# Altium schematic symbol library Inverter Processor.SCHLIB: 53 symbols
Pins are listed as number, name and electrical type; pins without a type are passive.

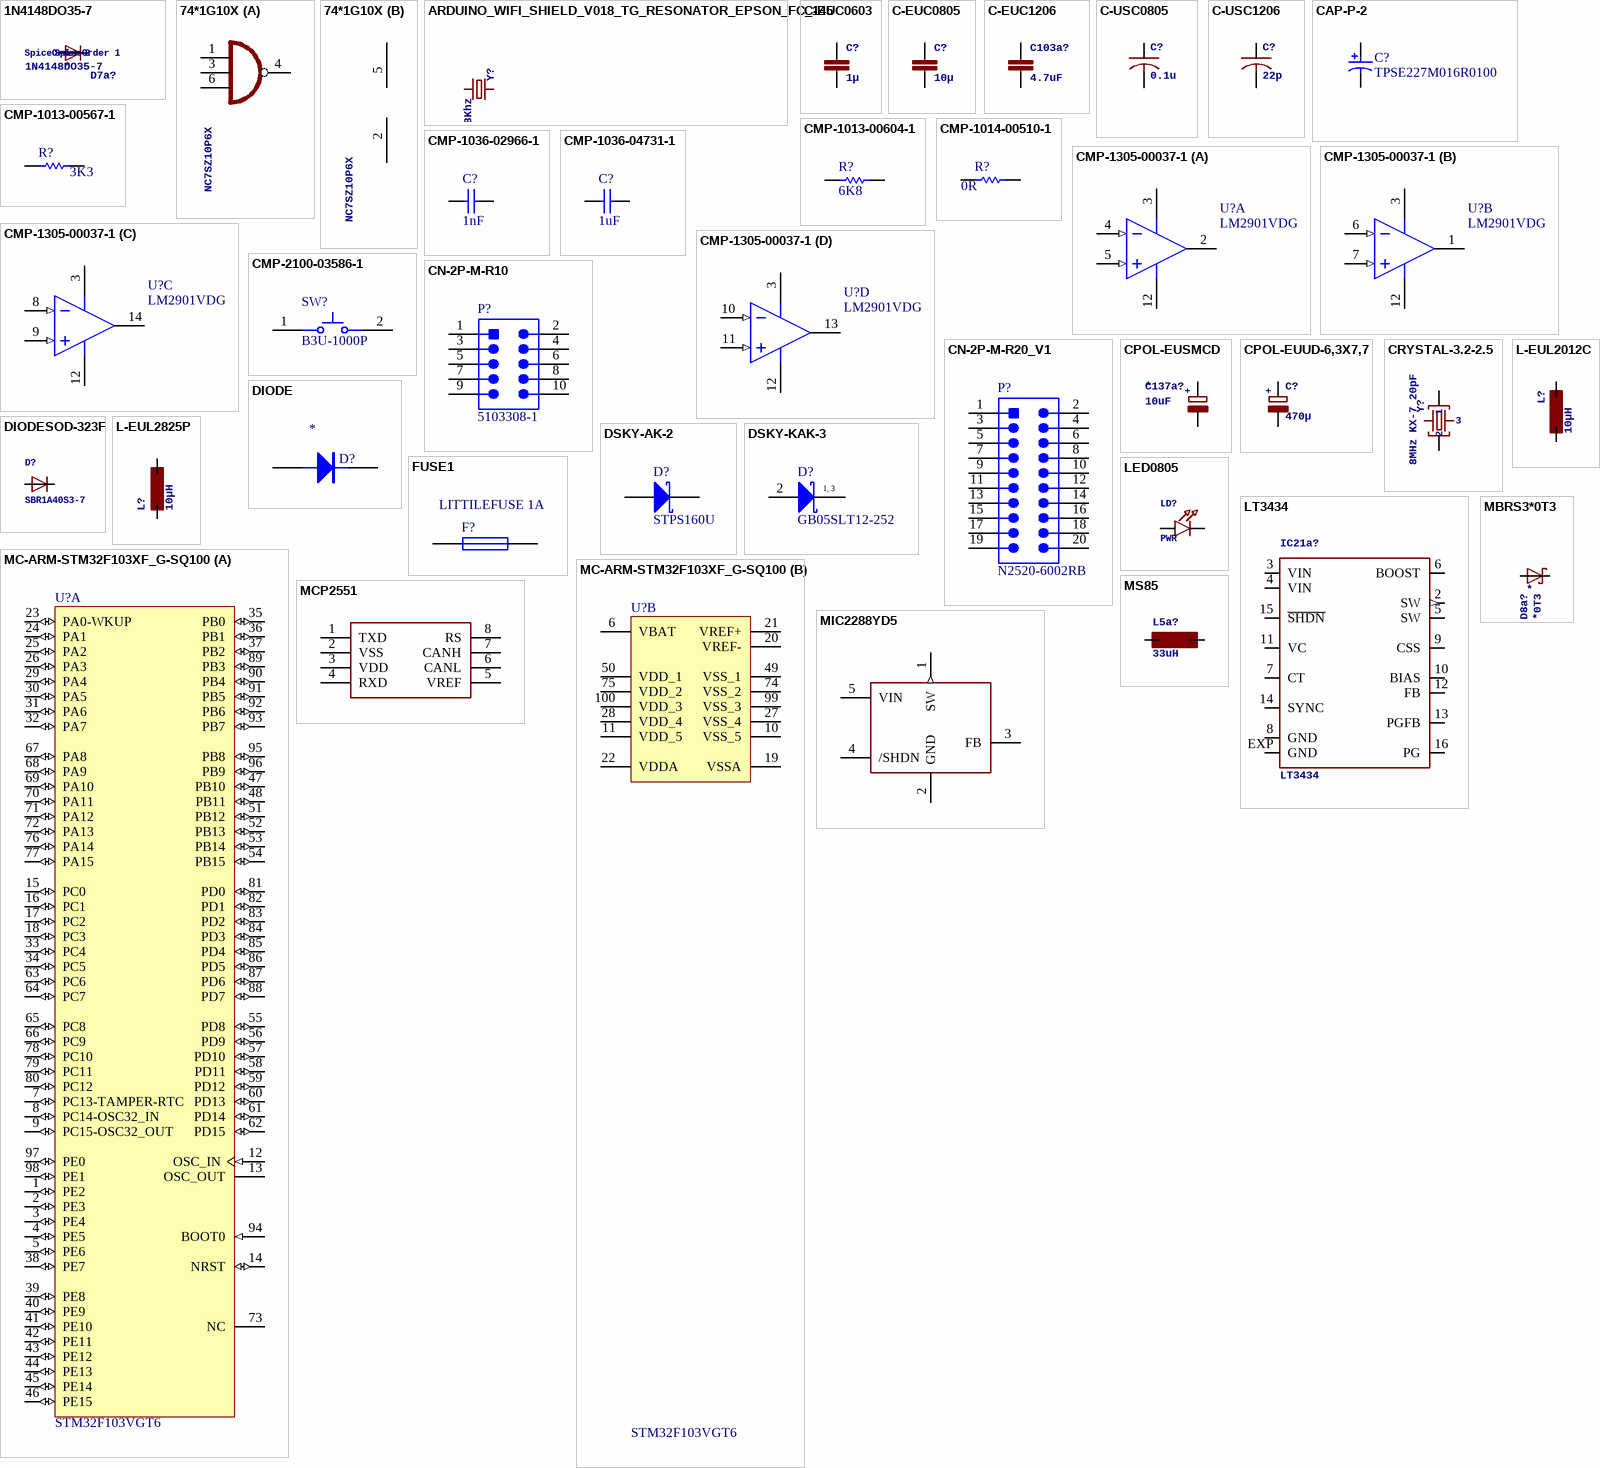
[diagram p0: symbols 1N4148DO35-7 to MS85]

## 1N4148DO35-7
designator D7a?  SpiceOrder1: SpiceOrder 1  SpiceOrder2: SpiceOrder 2
DIODE   high speed (Philips); NAME: *
footprint DO35-7
pins: A, C

## 74*1G10X
designator IC?, comment NC7SZ10P6X
3-input NAND gate
footprint SC70-6
part A pins: 1 I0, 3 I1, 4 O (oc), 6 I2
part B pins: 2 GND (power), 5 VCC (power)

## ARDUINO_WIFI_SHIELD_V018_TG_RESONATOR_EPSON_FC_145
designator Y?, comment 32.768Khz
footprint ARDUINO_WIFI_SHIELD_V018_TG_RESONATOR_EPSON_FC_145
pins: P$1 1, P$2 2

## C-EUC0603
designator C?, comment 1µ
CAPACITOR, European symbol
footprint C0603
pins: 1, 2

## C-EUC0805
designator C?, comment 10µ
CAPACITOR, European symbol
footprint C0805
pins: 1, 2

## C-EUC1206
designator C103a?, comment 4.7uF
CAPACITOR, European symbol
footprint C1206
pins: 1, 2

## C-USC0805
designator C?, comment 0.1u
CAPACITOR, American symbol
footprint C0805
pins: 1, 2

## C-USC1206
designator C?, comment 22p
CAPACITOR, American symbol
footprint C1206
pins: 1, 2

## CAP-P-2
designator C?, comment TPSE227M016R0100
Low ESR, 220 uF, 16 V, +/- 20%, -55 to 125 degC, 2-Pin SMD, RoHS, Tape and Reel; Manufacturer: AVX; Lead Spacing (nom): NotRequiredmm; Seal: NotRequired; Product Depth (mm): 4.3mm; DELETED: Compliant; Rad Hardened: No; Voltage: 16VDC; Product Height (mm): 4.1mm; Capacitance: 220000000pF; Product Length (mm): 7.3mm; DCL: 35.2uA; ESR: 0.1ohm; DF: 10%; Case Style: Molded; Polarity: Polar; Package / Case: 7343-43; Failure Rate: NotRequired; Case Code: E; Length W/Weld (max): NotRequiredmm; Operating Temp Range: -55Cto125C; Length W/Weld: NotRequiredmm; Insulation: NotRequired; Packaging: TapeandReel; Construction: SMTChip; Tolerance (+ or -): 20%; Manufacturer URL: http://www.avx.com/; Wire Form: NotRequired; Mounting Style: SurfaceMount; Datasheet Version: 01/2017; Package URL: http://www.avx.com/download/software/literature/AVX-Footprint-Library.pdf; Mounting Technology: SurfaceMount; Datasheet URL: http://datasheets.avx.com/TPS.pdf; Package Description: 2-Pin Surface Mount Device, Body 7.3 x 4.35 mm; Product Diameter (mm): NotRequiredmm; Package Reference: CAPMP7344X43-T; Seated Plane Height: NotRequiredmm
footprint CAPMP7344X43-T_V (Molded Capacitor, 2-Leads, Body 7.50x4.5mm)
pins: 1, 2

## CMP-1013-00567-1
designator R?, comment value 3K3  (hidden comment: 3K3 1% 0805(2012))
3K3 0.125W 1% 0805 (2012 Metric)  SMD; Case-Metric: 2012; Case-EIA: 0805; Technology: SMT; Tolerance: 1 %; Power: 0.125 W
footprint RESC0805(2012)_L (Chip Resistor, Body 2.0x1.3mm, IPC High Density)
footprint RESC0805(2012)_M (Chip Resistor, Body 2.0x1.3mm, IPC Low Density)
footprint RESC0805(2012)_N (Chip Resistor, Body 2.0x1.3mm, IPC Medium Density)
pins: 1, 2
1 alternate drawing of the same symbol

## CMP-1013-00604-1
designator R?, comment value 6K8  (hidden comment: 6K8 1% 0805(2012))
6K8 0.125W 1% 0805 (2012 Metric)  SMD; Value: 6800.00 Ohm; Case-EIA: 0805; Case-Metric: 2012; Tolerance: 1 %; Technology: SMT; Power: 0.125 W
footprint RESC0805(2012)_N (Chip Resistor, Body 2.0x1.3mm, IPC Medium Density)
footprint RESC0805(2012)_M (Chip Resistor, Body 2.0x1.3mm, IPC Low Density)
footprint RESC0805(2012)_L (Chip Resistor, Body 2.0x1.3mm, IPC High Density)
pins: 1, 2
1 alternate drawing of the same symbol

## CMP-1014-00510-1
designator R?, comment 0R
1K 0.25W 1% 1206 (3216 Metric)  SMD; Case-Metric: 3216; Case-EIA: 1206; Value: 1000.00 Ohm; Power: 0.25 W; Tolerance: 1 %; Technology: SMT
footprint RESC1206(3216)_N (Chip Resistor, Body 3.2x1.6mm, IPC Medium Density)
footprint RESC1206(3216)_M (Chip Resistor, Body 3.2x1.6mm, IPC Low Density)
footprint RESC1206(3216)_L (Chip Resistor, Body 3.2x1.6mm, IPC High Density)
pins: 1, 2
1 alternate drawing of the same symbol

## CMP-1036-02966-1
designator C?, comment value 1nF  (hidden comment: CAP 1nF 25V 0805(2012))
CAP 1nF 25V ±5% 0805 (2012 Metric) Thickness 1mm SMD; Case-Metric: 2012; Tolerance: Â±5%; Case-EIA: 0805; Max Thickness: 1 mm; Rated Voltage: 25 V; Technology: SMT
footprint CAPC0805(2012)100_N (Chip Capacitor, Body 2.0x1.2mm, Height 1.0mm, IPC Medium Density)
footprint CAPC0805(2012)100_L (Chip Capacitor, Body 2.0x1.2mm, Height 1.0mm, IPC High Density)
footprint CAPC0805(2012)100_M (Chip Capacitor, Body 2.0x1.2mm, Height 1.0mm, IPC Low Density)
pins: 1, 2
1 alternate drawing of the same symbol

## CMP-1036-04731-1
designator C?, comment value 1uF  (hidden comment: CAP 1uF 6.3V 0805(2012))
CAP 1uF 6.3V ±10% 0805 (2012 Metric) Thickness 1.45mm SMD; Case-Metric: 2012; Case-EIA: 0805; Tolerance: Â±10%; Max Thickness: 1.45 mm; Technology: SMT; Rated Voltage: 6.3 V
footprint CAPC0805(2012)145_N (Chip Capacitor, Body 2.0x1.2mm, Height 1.45mm, IPC Medium Density)
footprint CAPC0805(2012)145_M (Chip Capacitor, Body 2.0x1.2mm, Height 1.45mm, IPC Low Density)
footprint CAPC0805(2012)145_L (Chip Capacitor, Body 2.0x1.2mm, Height 1.45mm, IPC High Density)
pins: 1, 2
1 alternate drawing of the same symbol

## CMP-1305-00037-1
designator U?, comment LM2901VDG
Single Supply Quad Comparators, -40 to 125 degC, 14-Pin SOIC, Pb-Free, Tube; Manufacturer: On Semiconductor; IO Typ (mA): 16; ComponentLink1URL: http://www.onsemi.com/; PartNumber: LM2901VDG; DatasheetVersion: Rev. 20; Packing: Tube; ComponentLink1Description: Manufacturer URL; Mounting Technology: Surface Mount; PackageDescription: 14-Pin Small Outline Integrated Circuit, Body 8.65 x 3.9 mm, Pitch 1.27 mm; ComponentLink2URL: http://www.onsemi.com/pub_link/Collateral/LM339-D.PDF; ComponentLink3URL: http://www.onsemi.com/pub_link/Collateral/751A-03.PDF; RoHS: TRUE; PackageVersion: Rev. K, 05/2011; ComponentLink3Description: Package Specification; PackageReference: SOIC-14-751A-03; ComponentLink2Description: Datasheet; PartId: 1
footprint ONSC-SOIC-14-751A-03_V (SOIC, 14-Leads, Body 8.75x4mm, Pitch 1.27mm)
pins on every part: 3 VCC (power), 12 GND (power)
part A pins: 2 OUT1 (oc), 4 IN1- (in), 5 IN1+ (in)
part B pins: 1 OUT2 (oc), 6 IN2- (in), 7 IN2+ (in)
part C pins: 8 IN3- (in), 9 IN3+ (in), 14 OUT3 (oc)
part D pins: 10 IN4- (in), 11 IN4+ (in), 13 OUT4 (oc)

## CMP-2100-03586-1
designator SW?, comment B3U-1000P
Ultra-Small Tactile Switch, 0.05 A, 12 V, -25 to 70 degC, 2-Pin SMD, RoHS, Tape and Reel; Manufacturer: Omron Electronic Components; Operating Force: 1.5N; Current Rating: 50mA; Voltage Rating (DC): 12V; Electrical Life: 200000Cycles; Actuator Length: 0.4mm; Insulation Resistance: 100MOhm; Switch Travel: 0.15mm; Throw Configuration: SPST; Illumination Type: Illuminated; Width: 3mm; Weight: 0.022g; Datasheet Version: 42005.0; Datasheet URL: http://www.omron.com/ecb/products/pdf/en-b3u.pdf; Height: 1.2mm; Package Quantity: 1; REACH SVHC: Unknown; Contact Current Rating: 50mA; Contact Material: Silver; Max Current Rating: 50mA; Package Reference: B3U-1000; Termination: SMD/SMT; Packaging: TapeandReel; Manufacturer URL: http://www.omron.com/; RoHSCompliant: true; Mount: SurfaceMount; Length: 4mm; Min Operating Temperature: -25degC; Depth: 2.5mm; Lead Free: LeadFree; Case/Package: SMD/SMT; Package Description: 2-Pin Surface Mount Device, Body 3 x 2.5 mm; Max Operating Temperature: 70degC; Orientation: Straight
footprint OMRON-B3U-1000_V (SMD, 2-Leads, Body 3x2.5mm)
pins: 1, 2

## CN-2P-M-R10
designator P?, comment 5103308-1
Male Header, Pitch 2.54 mm, 2 x 5 Position, Height 9.85 mm, Tail Length 3.05 mm, RoHS, Tube; Manufacturer: TE Connectivity; Mating Products: 1658624-1-ND / -CONNRCPT10POSPOLARGOLD / 1658527-4-ND / -CONNRCPT10POS.100W/STRRELF / 1658527-3-ND / -CONNRCPT10POS.100622SERIES / 1658526-3-ND / -CONNRCPT10POSVERTGOLD / 1658526-5-ND / -609-1041LFFEMSOCKT,LEADFREE / 1658526-4-ND / -609-1030LFFEMSOCKT,LEADFREE / ASC10B-ND / -CONNIDCSOCKET10POSGOLD / ASC10H-ND / -CONNIDCSOCKET10POS15GOLD / AKC10B-ND / -CONNIDCSKT10POSW/POLGOLD / AKC10H-ND / -CONNIDCSKT10POSW/POL15GOLD / More...; Dynamic Catalog: AMP-LatchSeries; Number of Positions Loaded: All; Featured Product: AMP-LATCHRibbonCableConnectors; 3D Model: 5103308-1.pdf; Number of Positions: 10; Other Names: A33159; Catalog Drawings: LowProfileShroudedStraight; Connector Type: Header,Shrouded; Termination: Solder; Contact Finish Thickness: 15µin(0.38µm); Datasheet URL: http://www.onlinecomponents.com/productFiles/mf-AMP/eng_cat_889409_0699_96_.pdf; Standard Package: 125; Number of Rows: 2; Contact Type: MalePin; Mounting Type: ThroughHole; Manufacturer URL: http://www.te.com/; Contact Finish: GoldorGold-Palladium; Family: RectangularConnectors-Headers,MalePins; RoHS Information: 5103308-1StatementofCompliance; Packaging: Tube; Category: Connectors,Interconnects; Datasheet Version: Apr-12; Series: AMP-Latch; Color: Black
footprint TECO-5103308-1_V (Connector, 10-Leads, Body 20.32x9.14mm, Pitch 2.54mm)
pins: 1, 2, 3, 4, 5, 6, 7, 8, 9, 10

## CN-2P-M-R20_V1
designator P?, comment N2520-6002RB
Male Header, Pitch 2.54 mm, 2 x 10 Position, Height 9.91 mm, Tail Length 2.84 mm, -55 to 105 degC, RoHS; Manufacturer: 3MInterconnectSolutions; Number of Contacts: 20; Pitch: 2.54mm; Gender: HDR; Termination Method: Solder; Datasheet URL: https://datasheet.ciiva.com/11750/0900766b807b18da-11750722.pdf; Category: ConnectorHeadersandPCBReceptacles; Mounting Technology: ThroughHole; Contact Plating: GoldOverNickel; Package Reference: N2520-6002RB; Datasheet Version: 05/2007; Number of Rows: 2; Manufacturer URL: http://www.3m.com/; Package Description: Male Header, Pitch 2.54 mm, 2 x 10 Position, Height 9.91 mm, Tail Length 2.84 mm; Type: ShroudedHeader
footprint 3M-N2520-6002RB_V (CONN, 20-Leads, Body 32.72x8.59mm, Picth 2.54mm)
pins: 1, 2, 3, 4, 5, 6, 7, 8, 9, 10, 11, 12, 13, 14, 15, 16, 17, 18, 19, 20

## CPOL-EUSMCD
designator C137a?, comment 10uF
POLARIZED CAPACITOR, European symbol; NAME: *; +: +
footprint SMC_D
pins: +, -

## CPOL-EUUD-6,3X7,7
designator C?, comment 470µ
POLARIZED CAPACITOR, European symbol; +: +
footprint UD-6,3X7,7_NICHICON
pins: +, -

## CRYSTAL-3.2-2.5
designator Y?, comment 8MHz KX-7 20pF
1: 1; 2: 2; 3: 3
footprint CRYSTAL-3.2-2.5
pins: 1 C1, 2 GND, 3 C2, 4 GND

## DIODE
designator D?
Diode
footprint SMC (DO-214-AB/SMC; 2 C-Bend Leads; Body 7.9 x 5.9 mm, inc. leads (LxW))
pins: 1 A, 2 K

## DIODESOD-323F
designator D?, comment SBR1A40S3-7
Diode   SMADIODE - SMA Surface Mount Package  20V 1A Schottky Diode Digikey: 641-1014-6-ND    DO-1N4148 - Through Hole Small Current Diode SOD-123 20V 1 A (.5mV Vf) Schottky Diode - Digikey: MBRX120TPMSCT-ND    SOD-323 10V 570mA (.38mV Vf, 3ns) Schottky Diode - Digikey: ZLLS410CT-ND    SOD-523 30V 30mA Schottky Diode (RB751S-40TE61) - Digikey: RB751S-40TE61CT-ND    SOT23-R/W - SOT23 Package (R = Solder Paste/Reflow Ovens, W = Hand-Soldering)  BAT54Film 40V 300mA - Digikey: 497-7162-1-ND
footprint SOD-323F
pins: A, C

## DSKY-AK-2
designator D?, comment STPS160U
Power Schottky Rectifier, 1 A, 60 V, 2-Pin SMD (SMB), RoHS, Tape and Reel; Manufacturer: STMicroelectronics; Speed: FastRecovery=200mA(Io); Current - Average Rectified (Io): 1A; Online Catalog: SchottkyDiode; Other Names: 497-7547-6; Current - Reverse Leakage @ Vr: 4µA@60V; Voltage - Forward (Vf) (Max) @ If: 670mV@1A; Other Related Documents: STPS160ViewAllSpecifications; Voltage - DC Reverse (Vr) (Max): 60V; Series: -; Capacitance @ Vr, F: -; Manufacturer URL: http://www.st.com/; Packaging: Digi-Reel®; Package Reference: SMB_P; Package / Case: DO-214AA,SMB; Mounting Technology: SurfaceMount; Mounting Type: SurfaceMount; Diode Type: Schottky; Category: DiscreteSemiconductorProducts; Supplier Device Package: SMB; Package URL: http://www.st.com/st-web-ui/static/active/en/resource/technical/document/datasheet/CD00279657.pdf; Reverse Recovery Time (trr): -; Standard Package: 1; Family: Diodes,Rectifiers-Single; Operating Temperature - Junction: 150°C(Max); Datasheet URL: http://www.st.com/content/ccc/resource/technical/document/datasheet/93/c1/06/0c/63/7c/41/d5/CD00001023.pdf/files/CD00001023.pdf/jcr:content/translations/en.CD00001023.pdf; Datasheet Version: 03/2010; Package Description: 2-Pin Surface Mount Device, Body 4.325 x 3.625 mm
footprint STM-SMB_P_V (SMB, 2-Leads, Body 4.325x3.625mm)
pins: 1 A, 2 K

## DSKY-KAK-3
designator D?, comment GB05SLT12-252
Silicon Carbide Power Schottky Diode, 5 A, -55 to 175 degC, 3-Pin TO-252, RoHS, Bulk; Manufacturer: GeneSiC Semiconductor; SVHC: NoSVHC(16-Jun-2014); Diode Configuration: Single; Continuous Forward Current If: 5A; Total Capacitive Charge Qc: 35nC; Product Range: GENESICSEMICONDUCTOR-1200VSeries; Repetitive Reverse Voltage Vrrm Max: 1.2kV; No. of Pins: 3; Datasheet URL: http://www.genesicsemi.com/images/products_sic/rectifiers/GB05SLT12-252.pdf; Operating Temperature Min: -55degC; Manufacturer URL: http://www.genesicsemi.com/; Datasheet Version: Rev. 3, 08/2014; MSL: MSL1-Unlimited; Packaging: Each; Diode Case Style: TO-252; Junction Temperature, Tj max: 175degC
footprint GESC-TO-252-3_M (DPAK, 3-Leads, Body 6.75x5.8mm, Pitch 4.57mm, IPC Low Density)
footprint GESC-TO-252-3_N (DPAK, 3-Leads, Body 6.75x5.8mm, Pitch 4.57mm, IPC Medium Density)
footprint GESC-TO-252-3_L (DPAK, 3-Leads, Body 6.75x5.8mm, Pitch 4.57mm, IPC High Density)
pins: 1 K, 2 A, 3 K
text: 1, 3

## FUSE1
designator F?, comment LITTILEFUSE 1A
Fuse
footprint 2225
pins: 1, 2

## L-EUL2012C
designator L?, comment 10µH
INDUCTOR, European symbol
footprint L2012C
pins: 1, 2

## L-EUL2825P
designator L?, comment 10µH
INDUCTOR, European symbol
footprint L2825P
footprint L2825P
footprint L2825P
pins: 1, 2

## LED0805
designator LD?, comment PWR
LED0603 - 0603 Surface Mount Package    2mA: Green LED - Low Power (3.9mcd, 2ma, 1.7Vf) - Digikey: 475-2709-2-ND  Orange LED - Low Power (9.8mcd, 2ma, 1.8Vf) - Digikey: 475-1194-2-ND  Red LED - Low Power (5mcd, 2ma, 1.8Vf) - Digikey: 475-1195-2-ND  Yellow LED - Low Power (7mcd, 2ma, 1.8Vf) - Digikey: 475-1196-2-ND       5mA: Blue LED - Low Power (17mcd, 5ma, 2.9Vf) - Digikey: LNJ937W8CRACT-ND    0805 - 0805 Surface Mount Package    2mA: Red LED (8.8mcd, 2mA, 1.8Vf, Clear) - Low Power [Digikey: 475-2510-1-ND]  Green LED (5mcd, 2mA, 1.8Vf, Clear) - Low Power [Digikey: 475-2730-1-ND]  Yellow LED (11.3mcd, 2mA, 1.8Vf, Clear) - Low Power [Digikey: 475-2555-1-ND]       20mA: Red LED (104mcd, 20mA, Diffused) - LS R976 [Digikey: 475-1278-6-ND]  Red LED (12mcd, 20mA, 2.0Vf, Clear) - APT2012EC [Digikey: 754-1128-1-ND]  Green LED (15mcd, 20mA, 2.2Vf, Clear) - APT2012GC [Digikey: 754-1131-1-ND]  Orange LED (160mcd, 20mA, 2.1Vf, Clear) - APT2012SECK [Digikey: 754-1130-1-ND]     1206 - 1206 Surface Mount Package  Green LED (26mcd, 20mA, Diffused) - LG N971  [Digikey: 475-1407-6-ND]  Red LED (15mcd, 20mA, Diffused) - LH N974 [Digikey: 475-1416-6-ND]
footprint CHIPLED_0805
pins: A, C

## LT3434
designator IC21a?
High Voltage 3A, 200kHz Step-Down Switching Regulator with 100ÂµA Quiescent Current   Spurce: www.linear.com .. 3434fb.pdf; MPN: LT3434EFE#PBF; MF: *; OC_FARNELL: 1501035; OC_NEWARK: 57M8118
footprint TSSOP16EXP
pins: 2 SW (out), 3 VIN, 4 VIN, 5 SW, 6 BOOST, 7 CT, 8 GND (power), 9 CSS, 10 BIAS, 11 VC, 12 FB, 13 PGFB, 14 SYNC, 15 ~{SHDN}, 16 PG (oc), EXP GND (power)

## MBRS3*0T3
designator D8a?
SCHOTTKY BARRIER RECTIFIER 3.0 AMPERES 20, 30, 40 VOLT   Source: MBRS340T3-D.pdf; NAME: *
footprint SMC
pins: 1 A, 2 C

## MC-ARM-STM32F103XF_G-SQ100
designator U?, comment STM32F103VGT6
ARM Cortex-M3 32-bit MCU, 1024 KB Flash, 96 KB Internal RAM, 80 I/Os, 100-pin LQFP, -40 to 85 degC, Tray; FLASH Size (Prog) (kB): 1024; Internal RAM Size (kB): 96; I/Os (High Current): 80; D/A Converter: 2x12-bit (2 Channel); A/D Converter: 3x12-bit (16 Channel); Operating Frequency(F) (Processor speed) (MHz): 72; Supply Voltage(Vcc) min (V): 2; PackageVersion: Rev. 1, 06/2013; Mounting Technology: Surface Mount; ComponentLink3Description: Package Specification; ComponentLink2Description: Datasheet; PartNumber: STM32F103VGT6; ComponentLink1URL: http://www.st.com/web/en/home.html; ComponentLink2URL: http://www.st.com/st-web-ui/static/active/en/resource/technical/document/datasheet/CD00253742.pdf; ComponentLink3URL: http://www.st.com/st-web-ui/static/active/en/resource/technical/document/data_brief/DM00071938.pdf; Core: ARM Cortex-M3; PackageReference: LQFP100; ComponentLink1Description: Manufacturer URL; PackageDescription: 100-Pin Low Profile Quad Flat Package, 14 x 14 mm Body, 0.5 mm Pitch; Packing: Tray; DatasheetVersion: Rev. 3; PartId: 1
footprint STM-LQFP100_L (Thin QFP, 100-Leads, Body 14x14mm, Pitch 0.5mm, IPC High Density)
footprint STM-LQFP100_N (Thin QFP, 100-Leads, Body 14x14mm, Pitch 0.5mm, IPC Medium Density)
footprint STM-LQFP100_M (Thin QFP, 100-Leads, Body 14x14mm, Pitch 0.5mm, IPC Low Density)
footprint STM-LQFP100_V (Thin QFP, 100-Leads, Body 14x14mm, Pitch 0.5mm, ST Recommended)
part A pins: 1 PE2 (io) "PE2/TRACECK/FSMC_A23", 2 PE3 (io) "PE3/TRACED0/FSMC_A19", 3 PE4 (io) "PE4/TRACED1/FSMC_A20", 4 PE5 (io) "PE5/TRACED2/FSMC_A21/TIM9_CH1", 5 PE6 (io) "PE6/TRACED3/FSMC_A22/TIM9_CH2", 7 PC13-TAMPER-RTC (io) "PC13-TAMPER-RTC/PC13/TAMPER-RTC", 8 PC14-OSC32_IN (io) "PC14-OSC32_IN/PC14/OSC32_IN", 9 PC15-OSC32_OUT (io) "PC15-OSC32_OUT/PC15/OSC32_OUT", 12 OSC_IN (in), 13 OSC_OUT, 14 NRST (io), 15 PC0 (io) "PC0/ADC123_IN10", 16 PC1 (io) "PC1/ADC123_IN11", 17 PC2 (io) "PC2/ADC123_IN12", 18 PC3 (io) "PC3/ADC123_IN13", 23 PA0-WKUP (io) "PA0-WKUP/PA0/WKUP/USART2_CTS/ADC123_IN0/TIM2_CH1_ETR/TIM5_CH1/TIM8_ETR", 24 PA1 (io) "PA1/USART2_RTS/ADC123_IN1/TIM5_CH2/TIM2_CH2", 25 PA2 (io) "PA2/USART2_TX/TIM5_CH3/ADC123_IN2/TIM9_CH1/TIM2_CH3", 26 PA3 (io) "PA3/USART2_RX/TIM5_CH4/ADC123_IN3/TIM2_CH4/TIM9_CH2", 29 PA4 (io) "PA4/SPI1_NSS/USART2_CK/DAC_OUT1/ADC12_IN4", 30 PA5 (io) "PA5/SPI1_SCK/DAC_OUT2/ADC12_IN5", 31 PA6 (io) "PA6/SPI1_MISO/TIM8_BKIN/ADC12_IN6/TIM3_CH1/TIM13_CH1/TIM1_BKIN", 32 PA7 (io) "PA7/SPI1_MOSI/TIM8_CH1N/ADC12_IN7/TIM3_CH2/TIM14_CH1/TIM1_CH1N", 33 PC4 (io) "PC4/ADC12_IN14", 34 PC5 (io) "PC5/ADC12_IN15", 35 PB0 (io) "PB0/ADC12_IN8/TIM3_CH3/TIM8_CH2N/TIM1_CH2N", 36 PB1 (io) "PB1/ADC12_IN9/TIM3_CH4/TIM8_CH3N/TIM1_CH3N", 37 PB2 (io) "PB2/BOOT1", 38 PE7 (io) "PE7/FSMC_D4/TIM1_ETR", 39 PE8 (io) "PE8/FSMC_D5/TIM1_CH1N", 40 PE9 (io) "PE9/FSMC_D6/TIM1_CH1", 41 PE10 (io) "PE10/FSMC_D7/TIM1_CH2N", 42 PE11 (io) "PE11/FSMC_D8/TIM1_CH2", 43 PE12 (io) "PE12/FSMC_D9/TIM1_CH3N", 44 PE13 (io) "PE13/FSMC_D10/TIM1_CH3", 45 PE14 (io) "PE14/FSMC_D11/TIM1_CH4", 46 PE15 (io) "PE15/FSMC_D12/TIM1_BKIN", 47 PB10 (io) "PB10/I2C2_SCL/USART3_TX/TIM2_CH3", 48 PB11 (io) "PB11/I2C2_SDA/USART3_RX/TIM2_CH4", 51 PB12 (io) "PB12/SPI2_NSS/I2S2_WS/I2C2_SMBA/USART3_CK/TIM1_BKIN", 52 PB13 (io) "PB13/SPI2_SCK/I2S2_CK/USART3_CTS/TIM1_CH1N", 53 PB14 (io) "PB14/SPI2_MISO/TIM1_CH2N/USART3_RTS/TIM12_CH1", 54 PB15 (io) "PB15/SPI2_MOSI/I2S2_SD/TIM1_CH3N/TIM12_CH2", 55 PD8 (io) "PD8/FSMC_D13/USART3_TX", 56 PD9 (io) "PD9/FSMC_D14/USART3_RX", 57 PD10 (io) "PD10/FSMC_D15/USART3_CK", 58 PD11 (io) "PD11/FSMC_A16/USART3_CTS", 59 PD12 (io) "PD12/FSMC_A17/TIM4_CH1/USART3_RTS", 60 PD13 (io) "PD13/FSMC_A18/TIM4_CH2", 61 PD14 (io) "PD14/FSMC_D0/TIM4_CH3", 62 PD15 (io) "PD15/FSMC_D1/TIM4_CH4", 63 PC6 (io) "PC6/I2S2_MCK/TIM8_CH1/SDIO_D6/TIM3_CH1", 64 PC7 (io) "PC7/I2S3_MCK/TIM8_CH2/SDIO_D7/TIM3_CH2", 65 PC8 (io) "PC8/TIM8_CH3/SDIO_D0/TIM3_CH3", 66 PC9 (io) "PC9/TIM8_CH4/SDIO_D1/TIM3_CH4", 67 PA8 (io) "PA8/USART1_CK/TIM1_CH1/MCO", 68 PA9 (io) "PA9/USART1_TX/TIM1_CH2", 69 PA10 (io) "PA10/USART1_RX/TIM1_CH3", 70 PA11 (io) "PA11/USART1_CTS/USBDM/CAN_RX/TIM1_CH4", 71 PA12 (io) "PA12/USART1_RTS/USBDP/CAN_TX/TIM1_ETR", 72 PA13 (io) "PA13/JTMS-SWDIO", 73 NC, 76 PA14 (io) "PA14/JTCK-SWCLK", 77 PA15 (io) "PA15/JTDI/SPI3_NSS/I2S3_WS/TIM2_CH1_ETR/SPI1_NSS", 78 PC10 (io) "PC10/UART4_TX/SDIO_D2/USART3_TX", 79 PC11 (io) "PC11/UART4_RX/SDIO_D3/USART3_RX", 80 PC12 (io) "PC12/UART5_TX/SDIO_CK/USART3_CK", 81 PD0 (io) "PD0/FSMC_D2/CAN_RX", 82 PD1 (io) "PD1/FSMC_D3/CAN_TX", 83 PD2 (io) "PD2/TIM3_ETR/UART5_RX/SDIO_CMD", 84 PD3 (io) "PD3/FSMC_CLK/USART2_CTS", 85 PD4 (io) "PD4/FSMC_NOE/USART2_RTS", 86 PD5 (io) "PD5/FSMC_NWE/USART2_TX", 87 PD6 (io) "PD6/FSMC_NWAIT/USART2_RX", 88 PD7 (io) "PD7/FSMC_NE1/FSMC_NCE2/USART2_CK", 89 PB3 (io) "PB3/JTDO/SPI3_SCK/I2S3_CK/TRACESWO/TIM2_CH2/SPI1_SCK", 90 PB4 (io) "PB4/NJTRST/SPI3_MISO/TIM3_CH1/SPI1_MISO", 91 PB5 (io) "PB5/I2C1_SMBA/SPI3_MOSI/I2S3_SD/TIM3_CH2/SPI1_MOSI", 92 PB6 (io) "PB6/I2C1_SCL/TIM4_CH1/USART1_TX", 93 PB7 (io) "PB7/I2C1_SDA/FSMC_NADV/TIM4_CH2/USART1_RX", 94 BOOT0 (in), 95 PB8 (io) "PB8/TIM4_CH3/SDIO_D4/TIM10_CH1/I2C1_SCL/CAN_RX", 96 PB9 (io) "PB9/TIM4_CH4/SDIO_D5/TIM11_CH1/I2C1_SDA/CAN_TX", 97 PE0 (io) "PE0/TIM4_ETR/FSMC_NBL0", 98 PE1 (io) "PE1/FSMC_NBL1"
part B pins: 6 VBAT (power), 10 VSS_5 (power), 11 VDD_5 (power), 19 VSSA (power), 20 VREF- (power), 21 VREF+ (power), 22 VDDA (power), 27 VSS_4 (power), 28 VDD_4 (power), 49 VSS_1 (power), 50 VDD_1 (power), 74 VSS_2 (power), 75 VDD_2 (power), 99 VSS_3 (power), 100 VDD_3 (power)

## MCP2551
designator IC?, comment MCP2562P  (value not drawn)
CAN transceiver
footprint SO08
pins: 1 TXD, 2 VSS, 3 VDD, 4 RXD, 5 VREF, 6 CANL, 7 CANH, 8 RS

## MIC2288YD5
designator IC?  (value not drawn)
footprint SOT23-5L
pins: 1 SW (out), 2 GND (oe), 3 FB, 4 /SHDN, 5 VIN

## MS85
designator L5a?, comment 33uH
INDUCTOR   SMD power inductor; MF: *; MPN: *; OC_FARNELL: unknown; OC_NEWARK: unknown
footprint MS85
pins: 1, 2

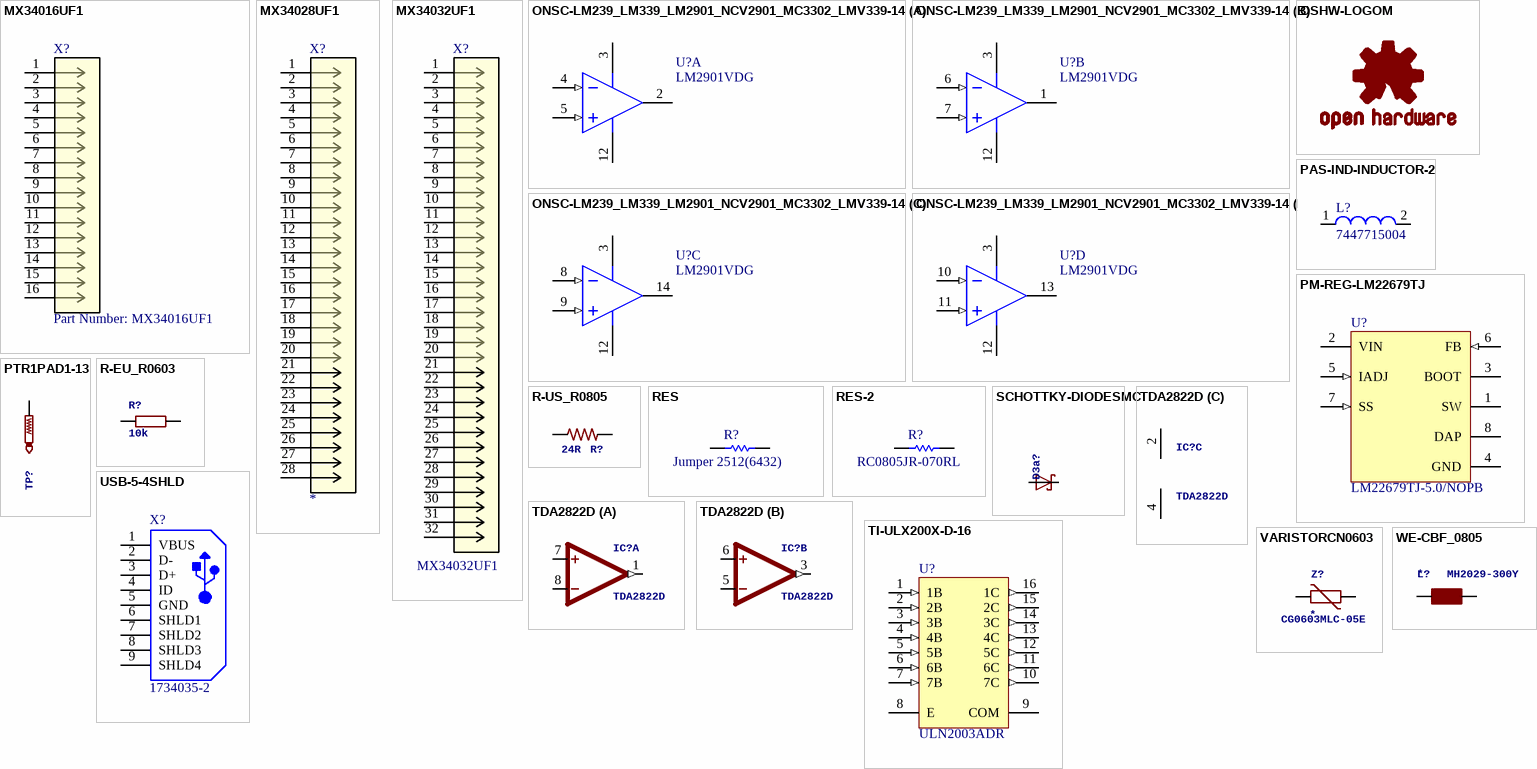
[diagram p1: symbols MX34016UF1 to WE-CBF_0805]

## MX34016UF1
designator X?, comment Part Number: MX34016UF1
No Description Available; Vendor: JAE Electronics; Built_By: EMA_Cory; Manufacturer_Part_Number: MX34016UF1; Copyright: Copyright (C) 2018 Accelerated Designs. All rights reserved; RefDes: RefDes; Type: DEV; Value: Value
footprint CONN_MX34016UF1
pins: 1, 2, 3, 4, 5, 6, 7, 8, 9, 10, 11, 12, 13, 14, 15, 16

## MX34028UF1
designator X?
footprint CONN_MX34028UF2 (JAE 28 way vertical connector 2.2mm pitch)
pins: 1, 2, 3, 4, 5, 6, 7, 8, 9, 10, 11, 12, 13, 14, 15, 16, 17, 18, 19, 20, 21, 22, 23, 24, 25, 26, 27, 28

## MX34032UF1
designator X?
footprint PCBComponent_1
pins: 1, 2, 3, 4, 5, 6, 7, 8, 9, 10, 11, 12, 13, 14, 15, 16, 17, 18, 19, 20, 21, 22, 23, 24, 25, 26, 27, 28, 29, 30, 31, 32

## ONSC-LM239_LM339_LM2901_NCV2901_MC3302_LMV339-14
designator U?, comment LM2901VDG
Single Supply Quad Comparators, -40 to 125 degC, 14-Pin SOIC, Pb-Free, Tube; Manufacturer: On Semiconductor; IO Typ (mA): 16; ComponentLink1URL: http://www.onsemi.com/; PartNumber: LM2901VDG; DatasheetVersion: Rev. 20; Packing: Tube; ComponentLink1Description: Manufacturer URL; Mounting Technology: Surface Mount; PackageDescription: 14-Pin Small Outline Integrated Circuit, Body 8.65 x 3.9 mm, Pitch 1.27 mm; ComponentLink2URL: http://www.onsemi.com/pub_link/Collateral/LM339-D.PDF; ComponentLink3URL: http://www.onsemi.com/pub_link/Collateral/751A-03.PDF; RoHS: TRUE; PackageVersion: Rev. K, 05/2011; ComponentLink3Description: Package Specification; PackageReference: SOIC-14-751A-03; ComponentLink2Description: Datasheet; PartId: 1
footprint ONSC-SOIC-14-751A-03_V (SOIC, 14-Leads, Body 8.75x4mm, Pitch 1.27mm)
pins on every part: 3 VCC (power), 12 GND (power)
part A pins: 2 OUT1 (oc), 4 IN1- (in), 5 IN1+ (in)
part B pins: 1 OUT2 (oc), 6 IN2- (in), 7 IN2+ (in)
part C pins: 8 IN3- (in), 9 IN3+ (in), 14 OUT3 (oc)
part D pins: 10 IN4- (in), 11 IN4+ (in), 13 OUT4 (oc)

## OSHW-LOGOM
designator LOGO?  (value not drawn)
Open Source Hardware Logo This logo indicates the piece of hardware it is found on incorporates a OSHW license and/or adheres to the definition of open source hardware found here: http://freedomdefined.org/OSHW
footprint OSHW-LOGO-M

## PAS-IND-INDUCTOR-2
designator L?, comment 7447715004
SMD-Shielded Power Inductor WE-PD, L = 4.70 µH; Inductance: 4.70 ÂµH; PackageReference: WE-PD-LS; ComponentLink2Description: Datasheet; ComponentLink2URL: http://www.we-online.de/katalog/media/pdf/7447715004.pdf; DatasheetVersion: ver 1, Nov-2008; ComponentLink1URL: http://www.we-online.com; PackageVersion: 2008; PackageDescription: SMD Inductor, 2-Leads, Body 12.0 x 12.0 mm; ComponentLink1Description: Manufacturer Link
footprint WE-PD-LS (SMD Inductor, 2-Leads, Body 12.0x12.0x4.5 mm)
pins: 1, 2

## PM-REG-LM22679TJ
designator U?, comment LM22679TJ-5.0/NOPB
5A SIMPLE SWITCHER®, Step-Down Voltage Regulator with Adjustable Soft-Start and Current Limit, 7-pin TO-263 Thin, Pb-Free; Manufacturer: Texas Instruments; PowerWise: N; PackageTopMarking: NSUZXYTTE#*LM22679*TJ-5.0; PinCount: 7; ComponentLink1URL: http://www.ti.com/general/docs/lit/getliterature.tsp?genericPartNumber=LM22679&fileType=pdf; CompType: Switcher; ComponentLink1Description: Datasheet URL; RoHS: Y; PackageReference: NDR0007A; PackageDescription: Thin TO-263, Molded, 9.85 x 10.16 x 2mm Body, 7 Lead, 1.27mm Pitch, Surface Mount
footprint NDR0007A_L (DPAK, 7-Leads, Body 10.4x10.1mm, Pitch 1.27mm, IPC High Density)
footprint NDR0007A_M (DPAK, 7-Leads, Body 10.4x10.1mm, Pitch 1.27mm, IPC Low Density)
footprint NDR0007A_N (DPAK, 7-Leads, Body 10.4x10.1mm, Pitch 1.27mm, IPC Medium Density)
pins: 1 SW (power), 2 VIN (power), 3 BOOT, 4 GND (power), 5 IADJ (in), 6 FB (in), 7 SS (in), 8 DAP (power)

## PTR1PAD1-13
designator TP?  (value not drawn)
TEST PIN
footprint P1-13
pins: TP

## R-EU_R0603
designator R?, comment 10k
RESISTOR, European symbol
footprint R0603
pins: 1, 2

## R-US_R0805
designator R?, comment 24R
RESISTOR, American symbol
footprint R0805
pins: 1, 2

## RES
designator R?, comment Jumper 2512(6432)
Jumper 2512 (6432 Metric); Tolerance: None; Case-EIA: 2512; Value: 0.00 Ohm; Case-Metric: 6432; Technology: SMT; Power: None
footprint RESC2512(6432)_L (Chip Resistor, Body 6.4x3.2mm, IPC High Density)
footprint RESC2512(6432)_N (Chip Resistor, Body 6.4x3.2mm, IPC Medium Density)
footprint RESC2512(6432)_M (Chip Resistor, Body 6.4x3.2mm, IPC Low Density)
pins: 1, 2
1 alternate drawing of the same symbol

## RES-2
designator R?, comment RC0805JR-070RL
Chip Resistor, 0 Ohm, Jumper, +/- 5%, 0.125 W, -55 to 155 degC, 0805 (2012 Metric), RoHS, Tape and Reel; Manufacturer: Yageo; Power Rating: 125mW; Resistance: 0mOhm; Voltage Rating (DC): 150V; Temperature Coefficient: 200ppm/degreesC; Height: 0.5mm; Depth: 1.25mm; Case Code (Imperial): 0805; Lead Free: LeadFree; Military Standard: Not; Package Description: 2-Pin Surface Mounted Device, Body 2 x 1.25 mm; Case Code (Metric): 2012; Composition: ThickFilm; Voltage Rating: 150V; Manufacturer URL: http://www.yageo.com/; Packaging: TapeandReel; Package Reference: 0805; REACH SVHC: Unknown; Tolerance: 5%; Case/Package: 0805; Max Operating Temperature: 155degC; Number of Pins: 2; Min Operating Temperature: -55degC; RoHSCompliant: true; Length: 2mm; Datasheet URL: http://www.yageo.com/NewPortal/yageodocoutput?fileName=/pdf/R-Chip/PYu-RC_Group_51_RoHS_L_5.pdf; Termination: SMD/SMT; Radiation Hardening: No; Width: 1.25mm; Contact Plating: Tin; Datasheet Version: Rev. 5, 10/2016
footprint RESC2013X60X35ML10T20 (Chip Resistor, 2-Leads, Body 2.1x1.35mm, IPC Low Density)
footprint RESC2013X60X35NL10T20 (Chip Resistor, 2-Leads, Body 2.1x1.35mm, IPC Medium Density)
footprint RESC2013X60X35LL10T20 (Chip Resistor, 2-Leads, Body 2.00x1.25mm, IPC High Density)
pins: 1, 2

## SCHOTTKY-DIODESMC
designator D3a?  (value not drawn)
Schottky Diode
footprint SMC
pins: 1 A, 2 C

## TDA2822D
designator IC?
OP AMP
footprint SO08
part A pins: 1 OUT (out), 7 +IN, 8 -IN
part B pins: 3 OUT (out), 5 -IN, 6 +IN
part C pins: 2 V+ (power), 4 V- (power)

## TI-ULX200X-D-16
designator U?, comment ULN2003ADR
High-Voltage, High-Current Darlington Transistor Array, 0.5 A, 50 V, -20 to 70 degC, 16-Pin SOIC (D), Green (RoHS & no Sb/Br), Tape and Reel; Manufacturer: TexasInstruments; Peak DC Collector Current: 0.5A; Package Version: 4040047-6/M, 06/2011; Maximum Collector Emitter Voltage: 50V; Configuration: Array7; Maximum Collector Emitter Saturation Voltage: 1.1@100mA; Rad Hard: No; Packaging: Tape&Reel; Datasheet URL: http://www.ti.com/general/docs/lit/getliterature.tsp?genericPartNumber=uln2003a&fileType=pdf; Package Reference: D16; Category: DarlingtonBJT; Datasheet Version: Rev. O, 01/2016; Manufacturer URL: http://www.ti.com/; Type: NPN; Package Description: 16-Pin Plastic Small Outline, Body 9.9 x 3.9 mm, Pitch 1.27 mm; Mounting: SurfaceMount; Package: 16SOIC; Package URL: http://www.ti.com/lit/ml/mpds178g/mpds178g.pdf
footprint D0016A_M (SOIC, 16-Leads, Body 10x4mm, Pitch 1.27mm, IPC Low Density)
footprint D0016A_N (SOIC, 16-Leads, Body 10x4mm, Pitch 1.27mm, IPC Medium Density)
footprint D0016A_L (SOIC, 16-Leads, Body 10x4mm, Pitch 1.27mm, IPC High Density)
pins: 1 1B (in) "Channel 1 Darlington base input", 2 2B (in) "Channel 2 Darlington collector output", 3 3B (in) "Channel 3 Darlington collector output", 4 4B (in) "Channel 4 Darlington collector output", 5 5B (in) "Channel 5 Darlington collector output", 6 6B (in) "Channel 6 Darlington collector output", 7 7B (in) "Channel 7 Darlington collector output", 8 E "Common emitter shared by all channels (typically tied to ground)", 9 COM "Common cathode node for flyback diodes (required for inductive loads)", 10 7C (out) "Channel 7 Darlington base input", 11 6C (out) "Channel 6 Darlington base input", 12 5C (out) "Channel 5 Darlington base input", 13 4C (out) "Channel 4 Darlington base input", 14 3C (out) "Channel 3 Darlington base input", 15 2C (out) "Channel 2 Darlington base input", 16 1C (out) "Channel 1 Darlington collector output"

## USB-5-4SHLD
designator X?, comment 1734035-2
Surface Mount Type B Mini USB, 5 Positions, 0.8 mm Pitch, 0 to 50 degC, RoHS, Tape and Reel; Manufacturer: TE Connectivity; Number of Contacts: 5; Pitch: 0.8mm; Body Orientation: RightAngle; Number of Ports: 1; Gender: RCP; Manufacturer URL: http://www.te.com/; Color: Black; Packaging: TapeandReel; Datasheet Version: Rev. B1, 07/2010; Housing Material: Thermoplastic; Termination Method: Solder; Part No: 1734035-2; Contact Plating: GoldOverNickel; Dimension: 4.14mm; Maximum Current Rating: N/A; Contact Material: PhosphorBronze; Number of Terminals: 5; Type: USB; Mounting: SurfaceMount; Datasheet URL: https://datasheet.ciiva.com/11759/0900766b80ed62f8-11759638.pdf; Operating Temperature: N/A; RoHS: Yes; Maximum Voltage Rating: N/A
footprint TECO-1734035-2-5_V (SMD, 5-Leads, Body 9.9x9.2mm, Pitch 0.8mm)
pins: 1 VBUS (power), 2 D-, 3 D+, 4 ID, 5 GND (power), 6 SHLD1, 7 SHLD2, 8 SHLD3, 9 SHLD4

## VARISTORCN0603
designator Z?, comment CG0603MLC-05E
VARISTOR; NAME: *
footprint CT/CN0603
pins: 1, 2

## WE-CBF_0805
designator L?, comment MH2029-300Y
SMD EMI Suppression Ferrite Beads - excellent anti-EMI properties - low DCR - impedances till 3000 ohms - rated current up to 6 A; NAME: *
footprint 0805
pins: 1, 2